# EAGLE library part ARDUINOMEGA (library lolind32)
The Arduino Mega is a microcontroller board based on the ATmega1280. - 54 digital input/output pins (of which 14 can be used as PWM outputs) - 16 analog inputs - 4 UARTs (hardware serial ports) - 16 MHz crystal oscillator - USB connection - power jack - ICSP header - reset button It contains everything needed to support the microcontroller; simply connect it to a computer with a USB cable or power it with a AC-to-DC adapter or battery to get started. The Mega is compatible with most shields designed for the Arduino Duemilanove or Diecimila. http://arduino.cc/en/Main/ArduinoBoardMega
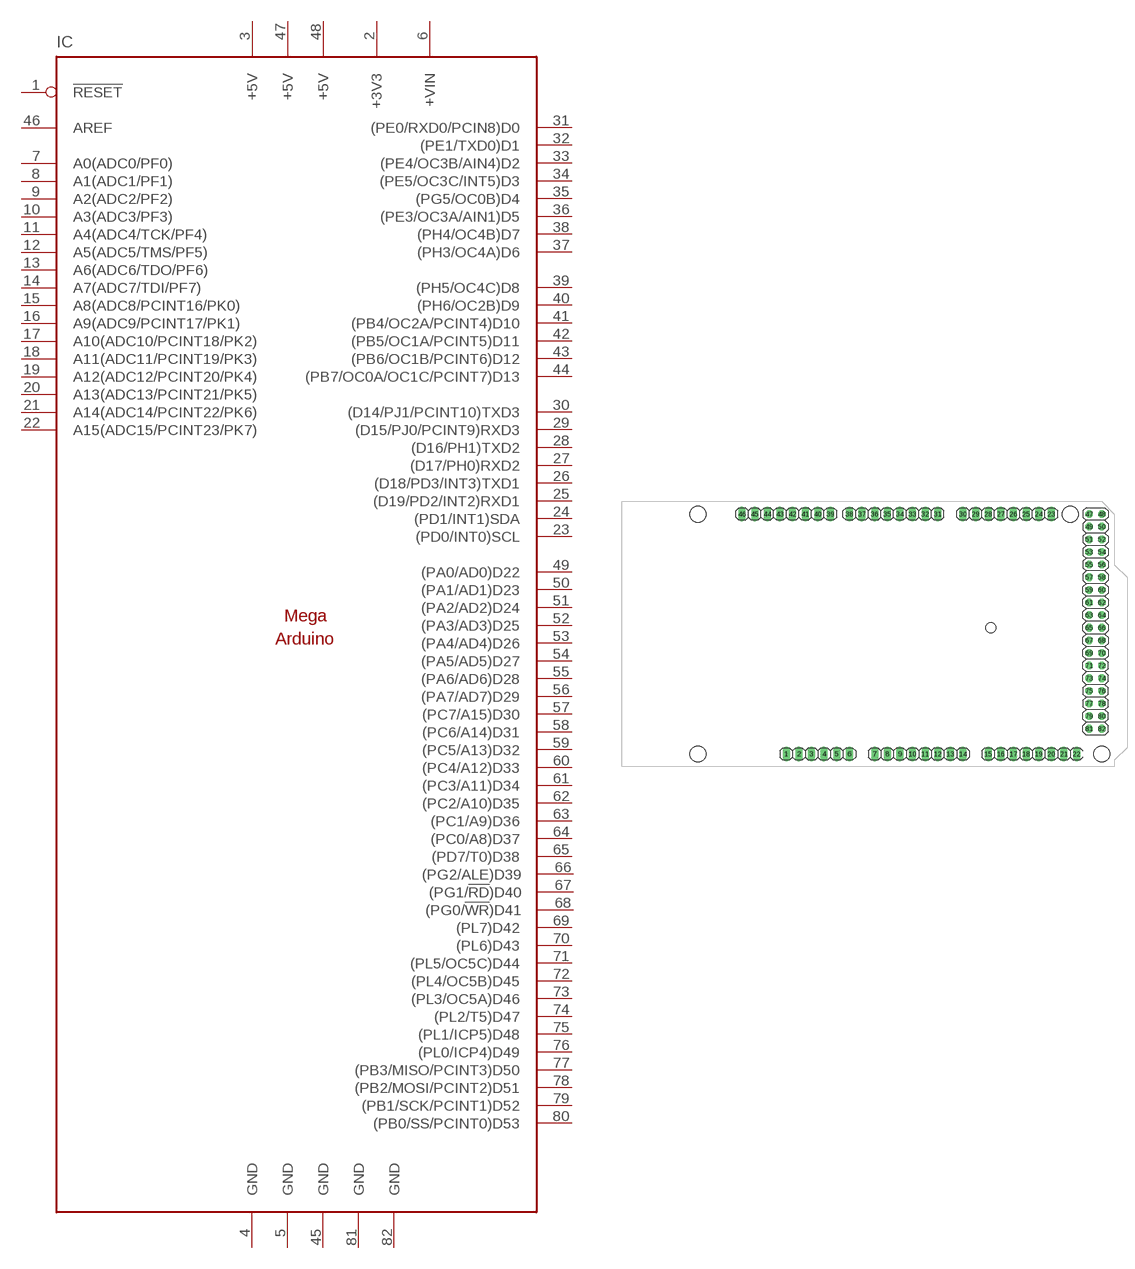
[diagram p1: symbol with the pads of ARDUINOMEGA; footprint ARDUINOMEGA]

Designator prefix IC

## ARDUINOMEGA  [ARDUINOMEGA]
1  !RESET
2  +3V3  pwr
3  +5V  pwr
4  GND  pwr
5  GND  pwr
6  +VIN  pwr
7  A0(ADC0/PF0)
8  A1(ADC1/PF1)
9  A2(ADC2/PF2)
10  A3(ADC3/PF3)
11  A4(ADC4/TCK/PF4)
12  A5(ADC5/TMS/PF5)
13  A6(ADC6/TDO/PF6)
14  A7(ADC7/TDI/PF7)
15  A8(ADC8/PCINT16/PK0)
16  A9(ADC9/PCINT17/PK1)
17  A10(ADC10/PCINT18/PK2)
18  A11(ADC11/PCINT19/PK3)
19  A12(ADC12/PCINT20/PK4)
20  A13(ADC13/PCINT21/PK5)
21  A14(ADC14/PCINT22/PK6)
22  A15(ADC15/PCINT23/PK7)
23  (PD0/INT0)SCL
24  (PD1/INT1)SDA
25  (D19/PD2/INT2)RXD1
26  (D18/PD3/INT3)TXD1
27  (D17/PH0)RXD2
28  (D16/PH1)TXD2
29  (D15/PJ0/PCINT9)RXD3
30  (D14/PJ1/PCINT10)TXD3
31  (PE0/RXD0/PCIN8)D0
32  (PE1/TXD0)D1
33  (PE4/OC3B/AIN4)D2
34  (PE5/OC3C/INT5)D3
35  (PG5/OC0B)D4
36  (PE3/OC3A/AIN1)D5
37  (PH3/OC4A)D6
38  (PH4/OC4B)D7
39  (PH5/OC4C)D8
40  (PH6/OC2B)D9
41  (PB4/OC2A/PCINT4)D10
42  (PB5/OC1A/PCINT5)D11
43  (PB6/OC1B/PCINT6)D12
44  (PB7/OC0A/OC1C/PCINT7)D13
45  GND  pwr
46  AREF
47  +5V  pwr
48  +5V  pwr
49  (PA0/AD0)D22
50  (PA1/AD1)D23
51  (PA2/AD2)D24
52  (PA3/AD3)D25
53  (PA4/AD4)D26
54  (PA5/AD5)D27
55  (PA6/AD6)D28
56  (PA7/AD7)D29
57  (PC7/A15)D30
58  (PC6/A14)D31
59  (PC5/A13)D32
60  (PC4/A12)D33
61  (PC3/A11)D34
62  (PC2/A10)D35
63  (PC1/A9)D36
64  (PC0/A8)D37
65  (PD7/T0)D38
66  (PG2/ALE)D39
67  (PG1/!RD!)D40
68  (PG0/!WR!)D41
69  (PL7)D42
70  (PL6)D43
71  (PL5/OC5C)D44
72  (PL4/OC5B)D45
73  (PL3/OC5A)D46
74  (PL2/T5)D47
75  (PL1/ICP5)D48
76  (PL0/ICP4)D49
77  (PB3/MISO/PCINT3)D50
78  (PB2/MOSI/PCINT2)D51
79  (PB1/SCK/PCINT1)D52
80  (PB0/SS/PCINT0)D53
81  GND  pwr
82  GND  pwr

## Footprint ARDUINOMEGA (pad centres in mm)
drill 1.016 long: 1 33.02,2.54; 2 35.56,2.54; 3 38.1,2.54; 4 40.64,2.54; 5 43.18,2.54; 6 45.72,2.54; 7 50.8,2.54; 8 53.34,2.54; 9 55.88,2.54; 10 58.42,2.54; 11 60.96,2.54; 12 63.5,2.54; 13 66.04,2.54; 14 68.58,2.54; 15 73.66,2.54; 16 76.2,2.54; 17 78.74,2.54; 18 81.28,2.54; 19 83.82,2.54; 20 86.36,2.54; 21 88.9,2.54; 22 91.44,2.54; 23 86.36,50.8; 24 83.82,50.8; 25 81.28,50.8; 26 78.74,50.8; 27 76.2,50.8; 28 73.66,50.8; 29 71.12,50.8; 30 68.58,50.8; 31 63.5,50.8; 32 60.96,50.8; 33 58.42,50.8; 34 55.88,50.8; 35 53.34,50.8; 36 50.8,50.8; 37 48.26,50.8; 38 45.72,50.8; 39 41.91,50.8; 40 39.37,50.8; 41 36.83,50.8; 42 34.29,50.8; 43 31.75,50.8; 44 29.21,50.8; 45 26.67,50.8; 46 24.13,50.8
drill 1.016 octagon: 47 93.98,50.8; 48 96.52,50.8; 49 93.98,48.26; 50 96.52,48.26; 51 93.98,45.72; 52 96.52,45.72; 53 93.98,43.18; 54 96.52,43.18; 55 93.98,40.64; 56 96.52,40.64; 57 93.98,38.1; 58 96.52,38.1; 59 93.98,35.56; 60 96.52,35.56; 61 93.98,33.02; 62 96.52,33.02; 63 93.98,30.48; 64 96.52,30.48; 65 93.98,27.94; 66 96.52,27.94; 67 93.98,25.4; 68 96.52,25.4; 69 93.98,22.86; 70 96.52,22.86; 71 93.98,20.32; 72 96.52,20.32; 73 93.98,17.78; 74 96.52,17.78; 75 93.98,15.24; 76 96.52,15.24; 77 93.98,12.7; 78 96.52,12.7; 79 93.98,10.16; 80 96.52,10.16; 81 93.98,7.62; 82 96.52,7.62
hole 3.2 at 15.24,50.8
hole 3.2 at 15.24,2.54
hole 3.2 at 90.17,50.8
hole 3.2 at 96.52,2.54
hole 2 at 74.168,27.94